# Altium footprint library Battery Cells.PcbLib: 6 footprints
Each footprint in its own frame and in the unit in brackets; x right, y up, seen from the top. Pads: shape width x height; smd on the part's side, far side on the other; paste and mask are expansions set on the pad; w line width, h text height; cw(c..) or ccw(c..) is an arc to the next point about the centre after c.
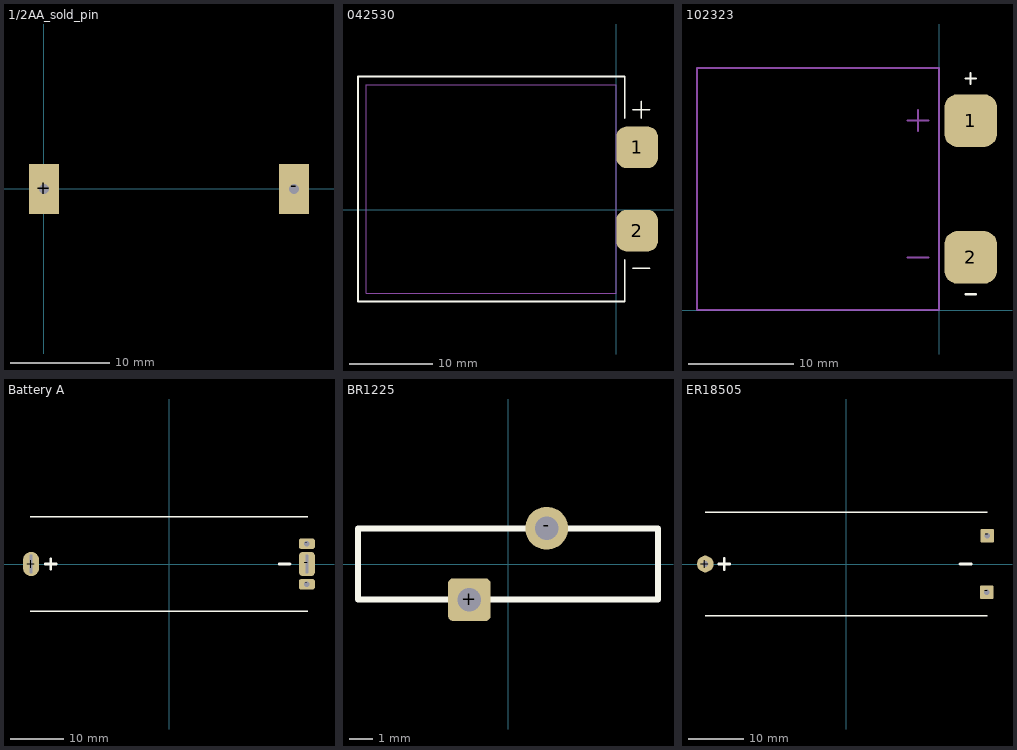
[diagram p0: the footprints below, top view; thin cyan lines are the x and y axes]

## 1/2AA_sold_pin [mm]
pads (2):
  rect 3x5 hole 1: +(0,0) -(25,0)

## 042530 [mm] "Battery, ultra thin, 3.7V, Li-Po, 15mAh, 0.4x25x30mm"
height 0.4
pads (2):
  rrect50% 5x5 smd paste-10: 1(2.5,7.5) 2(2.5,-2.5)
Top Overlay:
  lines w0.2: 1,-6 1,-11 -31,-11 -31,16 1,16 1,11 ; 2,-7 4,-7 ; 2,12 4,12 ; 3,11 3,13
Mechanical 13:
  lines w0.1: -30,-10 -30,15 0,15 0,-10 -30,-10
3D body: height 0.4, standoff 0, extent -30,-10 0,15

## 102323 [mm] "Battery, ultra thin, 3.7V, Li-Po, 30mAh, 1x23x23mm"
height 1
pads (2):
  rrect50% 5x5 smd paste-10: 1(3,18) 2(3,5)
Top Overlay:
  lines w0.2: 2.5,1.5 3.5,1.5 ; 2.5,22 3.5,22 ; 3,21.5 3,22.5
Mechanical 13:
  lines w0.2: -3,5 -1,5 ; -3,18 -1,18 ; -2,17 -2,19 ; -23,0 0,0 0,23 -23,23 -23,0
3D body: height 1, standoff 0, extent -23,0 0,23
3D body: height 0.3, standoff 0, extent 0,17 4,19
3D body: height 0.3, standoff 0, extent 0,4 4,6

## Battery A [mm] "Battery A"
height 17.5
pads (4):
  oval 3x4.5 hole 0.5 slot 3.5 at 90 deg: +(-25.65,0)
  rrect50% 3x2 hole 1: -(25.65,-3.775) -(25.65,3.775)
  rrect50% 3x4.5 hole 0.5 slot 3.5 at 90 deg: -(25.65,0)
Top Overlay:
  lines w0.254: -25.8,-8.8 25.8,-8.8 ; -25.8,8.8 25.8,8.8
  lines w0.5: -23,0 -21,0 -22,0 ; -22,-1 -22,0 ; -22,1 -22,0 ; 20.5,0 22.5,0
3D body: height 17.5, standoff -2, extent -25.8,-8.75 25.8,8.75

## BR1225 [mm] "BR1225"
height 14.1
pads (2):
  rrect25% 1.8x1.8 hole 1: +(-1.625,-1.5)
  round 1.8 hole 1: -(1.625,1.5)
Top Overlay:
  lines w0.254: -6.3,-1.5 6.3,-1.5 6.3,1.5 -6.3,1.5 -6.3,-1.5
3D body: height 14.1, standoff -1, extent -6.3,-1.575 6.3,1.575

## ER18505 [mm] "ER18505"
height 18.5
pads (3):
  round 3 hole 1: +(-25.4,0)
  rrect25% 2.5x2.5 hole 1: -(25.3,-5.08) -(25.4,5.08)
Top Overlay:
  lines w0.254: -25.4,-9.3 25.4,-9.3 ; -25.4,9.3 25.4,9.3
  lines w0.5: -23,0 -21,0 -22,0 ; -22,-1 -22,0 ; -22,1 -22,0 ; 20.5,0 22.5,0
3D body: height 18.6, standoff -2, extent -25.55,-9.3 25.55,9.3